# EAGLE library part AT24C01C-SSHM-B (library SchlegelAr_Master)
AT24C01C-SSHM-B - EEPROM 1K 2-WIRE 8 SOIC PB HALOFREE NiPdAu 1.7V last modified: Armin Schlegel, 20.03.2014 http://de.mouser.com/ProductDetail/Atmel/AT24C01C-SSHM-B/?qs=%2Fha2pyFaduiPyj5Xbzu3LDkZ5LRf3e5ZoZWa68Ku1XvnUdah058QnSJuuIfSMI6G http://www.mouser.com/ds/2/36/doc8700-75503.pdf
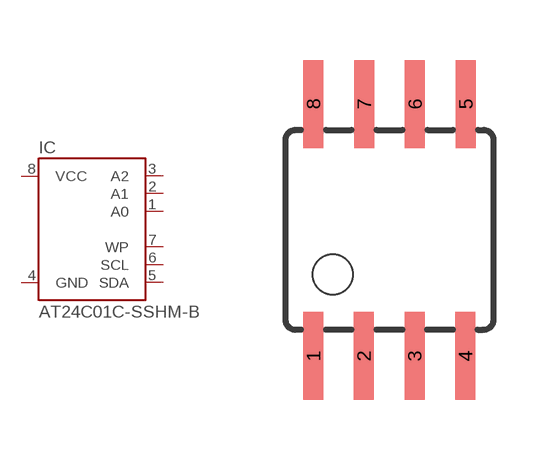
[diagram p9: symbol with the pads of SOIC8; footprint SOIC8]

Designator prefix IC

## AT24C01C-SSHM-B  [SOIC8]
1  A0  in
2  A1  in
3  A2  in
4  GND  pwr
5  SDA
6  SCL
7  WP  in
8  VCC  pwr

## Footprint SOIC8 (pad centres in mm)
smd 0.5 x 2.2: 1 -1.905,-3.154; 2 -0.645,-3.154; 3 0.625,-3.154; 4 1.895,-3.154; 5 1.905,3.154; 6 0.635,3.154; 7 -0.635,3.154; 8 -1.905,3.154